# EAGLE library part W25N01GV (library NR_IC)
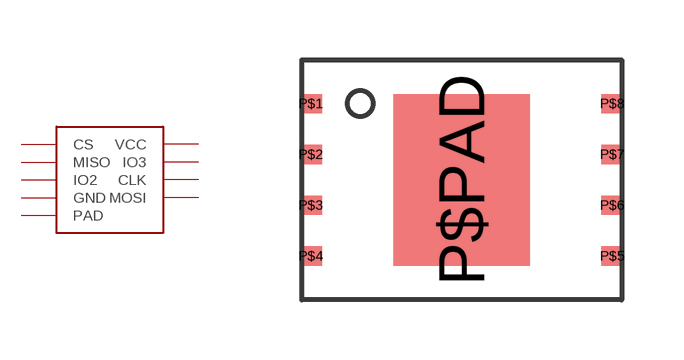
[diagram p9: symbol with the pads of WSON; footprint WSON]

Designator prefix -

## W25N01GV  [WSON]
P$1  CS
P$2  MISO
P$3  IO2
P$4  GND
P$5  MOSI
P$6  CLK
P$7  IO3
P$8  VCC
P$PAD  PAD

## Footprint WSON (pad centres in mm)
smd 0.559 x 0.483: P$1 -3.772,1.905; P$2 -3.772,0.635; P$3 -3.772,-0.635; P$4 -3.772,-1.905; P$5 3.772,-1.905; P$6 3.772,-0.635; P$7 3.772,0.635; P$8 3.772,1.905
smd 3.404 x 4.293: P$PAD 0,0